# Altium schematic symbol library DS1022-2x8RF11.SchLib: 1 symbol
Pins are listed as number, name and electrical type; pins without a type are passive.

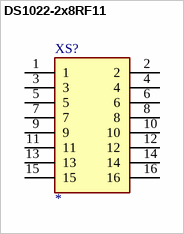
[diagram p0: symbol DS1022-2x8RF11]

## DS1022-2x8RF11
designator XS?
Connector; Manufacturer_Name: Connfly; Manufacturer_Part_Number: DS1023-2*8S21; Datasheet Link: https://www.tme.eu/Document/efd0203e2d3a140765df98191085ea88/DS1023.pdf; Height: 8.5mm
footprint DS1022-2x8RF11
pins: 1, 2, 3, 4, 5, 6, 7, 8, 9, 10, 11, 12, 13, 14, 15, 16